# EAGLE library part LM324PTH (library Projeto_Nicolau)
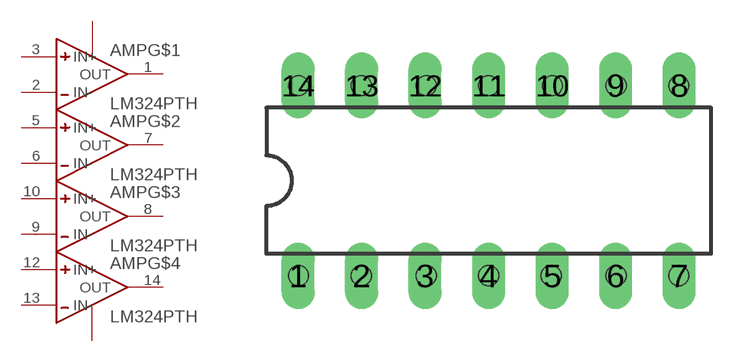
[diagram p4: symbol with the pads of DIP-14; footprint DIP-14]

Designator prefix AMP; gates G$1=AMPOP G$2=AMPOPMIDDLE G$3=AMPOPMIDDLE G$4=AMPOPGND

## LM324PTH  [DIP-14]
1  G$1:OUT  out
2  G$1:IN-  in
3  G$1:IN+  in
4  G$1:VCC  pwr
5  G$2:IN+  in
6  G$2:IN-  in
7  G$2:OUT  out
8  G$3:OUT  out
9  G$3:IN-  in
10  G$3:IN+  in
11  G$4:GND/VDD  pwr
12  G$4:IN+  in
13  G$4:IN-  in
14  G$4:OUT  out

## Footprint DIP-14 (pad centres in mm)
drill 0.813 long: 1 -7.62,-3.81; 2 -5.08,-3.81; 3 -2.54,-3.81; 4 0,-3.81; 5 2.54,-3.81; 6 5.08,-3.81; 7 7.62,-3.81; 8 7.62,3.81; 9 5.08,3.81; 10 2.54,3.81; 11 0,3.81; 12 -2.54,3.81; 13 -5.08,3.81; 14 -7.62,3.81
hole 0.8 at -7.6,-3.8
hole 0.8 at -5.1,-3.8
hole 0.8 at -2.5,-3.8
hole 0.8 at 0,-3.8
hole 0.8 at 2.5,-3.8
hole 0.8 at 5.1,-3.8
hole 0.8 at 7.6,-3.8
hole 0.8 at -7.6,3.8
hole 0.8 at -5.1,3.8
hole 0.8 at -2.5,3.8
hole 0.8 at 0,3.8
hole 0.8 at 2.55,3.8
hole 0.8 at 5.1,3.8
hole 0.8 at 7.6,3.8